# Altium footprint library Main.PcbLib: 20 footprints (part 2 of 2)
Each footprint in its own frame and in the unit in brackets; x right, y up, seen from the top. Pads: shape width x height; smd on the part's side, far side on the other; paste and mask are expansions set on the pad; w line width, h text height; cw(c..) or ccw(c..) is an arc to the next point about the centre after c.
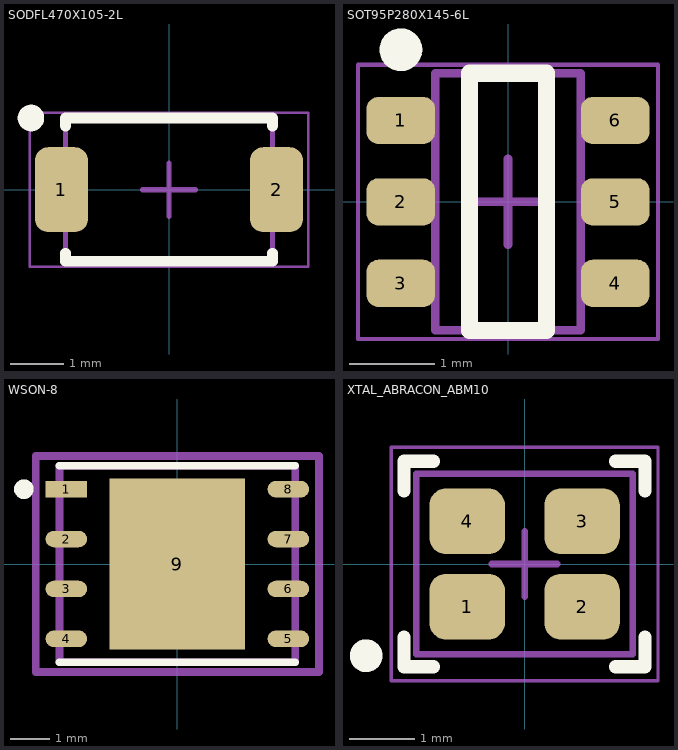
[diagram p1: the footprints below, top view; thin cyan lines are the x and y axes]

## SODFL470X105-2L [mm] "SODFL, 2-Leads, Body 2.50x4.70mm, IPC High Density"
height 1.05
pads (2):
  rrect50% 1x1.6 smd: 1(-2.025,0) 2(2.025,0)
Top Overlay:
  circle w0.25: c-2.6,1.35 r0.125
  lines w0.2: -1.95,-1.2 -1.95,-1.35 1.95,-1.35 1.95,-1.2 ; -1.95,1.2 -1.95,1.35 1.95,1.35 1.95,1.2
Top Assembly:
  lines w0.1: -1.95,-1.35 -1.95,1.35 1.95,1.35 1.95,-1.35 -1.95,-1.35
Top Courtyard:
  lines w0.05: -2.625,-1.45 -2.625,1.45 2.625,1.45 2.625,-1.45 -2.625,-1.45
  lines w0.1: -0.5,0 0.5,0 ; 0,-0.5 0,0.5
3D body "SODFL470X105-2L.step": height 1.05, standoff 0, extent -2.35,-1.35 2.35,1.35

## SOT95P280X145-6L [mm] "SOT23, 6-Leads, Body 2.90x2.80mm, Pitch 0.95mm, IPC High Density"
height 1.45
pads (6):
  rrect50% 0.8x0.55 smd: 1(-1.25,0.95) 2(-1.25,0) 3(-1.25,-0.95) 4(1.25,-0.95) 5(1.25,0) 6(1.25,0.95)
Top Overlay:
  circle w0.25: c-1.25,1.775 r0.125
  lines w0.2: -0.45,-1.5 -0.45,1.5 0.45,1.5 0.45,-1.5 -0.45,-1.5
Top Assembly:
  lines w0.1: -0.85,-1.5 0.85,-1.5 0.85,1.5 -0.85,1.5 -0.85,-1.5
Top Courtyard:
  lines w0.05: -1.75,-1.6 1.75,-1.6 1.75,1.6 -1.75,1.6 -1.75,-1.6
  lines w0.1: -0.5,0 0.5,0 ; 0,-0.5 0,0.5
3D body "SOT95P280X145-6L.step": height 1.45, standoff 0, extent -1.5,-1.5 1.5,1.5

## WSON-8 [mm]
pads (9):
  rect 1.061x0.418 smd paste+0 mask+0: 1(-2.826,1.905)
  rrect100% 1.061x0.418 smd paste+0 mask+0: 2(-2.826,0.635) 3(-2.826,-0.635) 4(-2.826,-1.905) 5(2.826,-1.905) 6(2.826,-0.635) 7(2.826,0.635) 8(2.826,1.905)
  rect 3.45x4.35 smd paste-1000 mask+0: 9(0,0)
Top Overlay:
  circle w0.25: c-3.906,1.905 r0.125
  lines w0.2: -3,-2.5 3,-2.5 ; -3,2.5 3,2.5
Top Paste:
  rectangle: -1.021,-1.471 1.021,1.471
Top 3D Body:
  lines w0.2: -3,-2.5 3,-2.5 3,2.5 -3,2.5 -3,-2.5
Top Assembly:
  lines w0.2: -3.606,-2.75 3.606,-2.75 3.606,2.75 -3.606,2.75 -3.606,-2.75
Top Courtyard:
  lines w0.2: -3.606,-2.75 3.606,-2.75 3.606,2.75 -3.606,2.75 -3.606,-2.75
Top Component Center:
  lines w0.1: -0.5,0 0.5,0 ; 0,-0.5 0,0.5
3D body "IC_Winbond_W25Q16JVZPIQ_TR_eec.STEP": height 0.25, standoff 0, extent -3.606,-2.75 3.606,2.75

## XTAL_ABRACON_ABM10 [mm]
pads (4):
  rrect50% 1.15x1 smd paste+0: 1(-0.875,-0.65) 2(0.875,-0.65) 3(0.875,0.65) 4(-0.875,0.65)
Top Overlay:
  circle w0.25: c-2.413,-1.397 r0.125
  lines w0.2: -1.836,-1.116 -1.836,-1.566 -1.386,-1.566 ; -1.836,1.116 -1.836,1.566 -1.386,1.566 ; 1.386,-1.566 1.836,-1.566 1.836,-1.116 ; 1.386,1.566 1.836,1.566 1.836,1.116
Mechanical 13:
  lines w0.1: -1.651,1.375 -1.65,-1.375 1.65,-1.375 1.65,1.375 -1.65,1.375
Mechanical 15:
  lines w0.05: -2.032,-1.778 2.032,-1.778 2.032,1.778 -2.032,1.778 -2.032,-1.778
  lines w0.1: -0.5,0 0.5,0 ; 0,-0.5 0,0.5
3D body "Quartz_Crystal_ABM10-166.step": height 0.5, standoff 0, extent -1.25,-0.984 1.25,1.016